# Altium footprint library Andy_Parts.PcbLib: 121 footprints (part 7 of 8)
Each footprint in its own frame and in the unit in brackets; x right, y up, seen from the top. Pads: shape width x height; smd on the part's side, far side on the other; paste and mask are expansions set on the pad; w line width, h text height; cw(c..) or ccw(c..) is an arc to the next point about the centre after c.
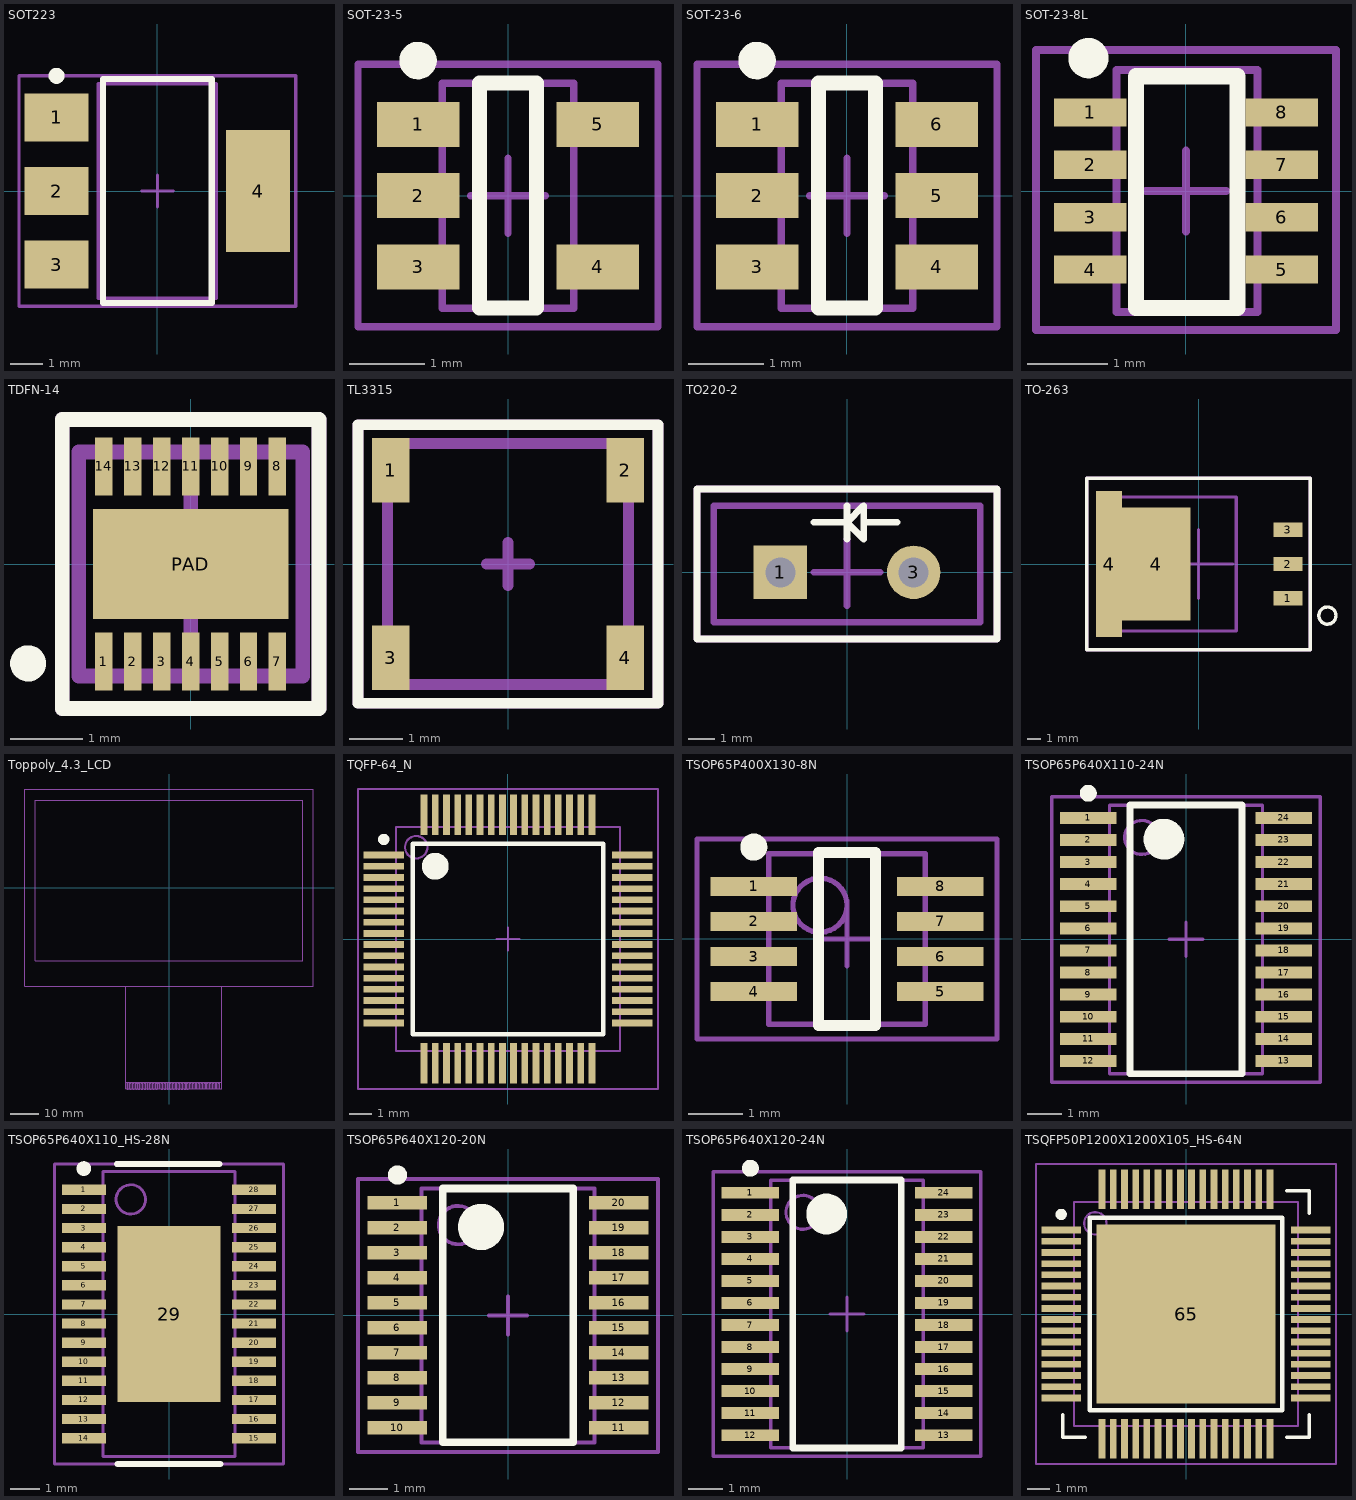
[diagram p6: the footprints below, top view; thin cyan lines are the x and y axes]

## SOT223 [mm] "SOT223, 4-Leads, Body 6.7x7.3mm (max), Pitch 2.30mm"
height 1.8
pads (4):
  rect 2x1.5 smd: 1(-3.15,2.3) 2(-3.15,0) 3(-3.15,-2.3)
  rect 2x3.8 smd: 4(3.15,0)
Top Overlay:
  circle w0.25: c-3.15,3.6 r0.125
  lines w0.2: -1.7,-3.5 -1.7,3.5 1.7,3.5 1.7,-3.5 -1.7,-3.5
Mechanical 1:
  text ".Designator" at 0,-2.159 h0.64
Mechanical 13:
  lines w0.1: -1.85,-3.35 -1.85,3.35 1.85,3.35 1.85,-3.35 -1.85,-3.35
Mechanical 15:
  lines w0.1: -0.5,0 0.5,0 ; 0,-0.5 0,0.5 ; -4.325,-3.6 -4.325,3.6 4.325,3.6 4.325,-3.6 -4.325,-3.6
3D body: height 1.8, standoff 0.02, extent -1.85,-3.35 1.85,3.35

## SOT-23-5 [mm] "SOT23, 5-Leads, Body 3.0x3.0mm (max), Pitch 0.95mm, IPC Medium Density"
height 1.8
pads (5):
  rect 1.1x0.6 smd: 1(-1.2,0.95) 2(-1.2,0) 3(-1.2,-0.95) 4(1.2,-0.95) 5(1.2,0.95)
Top Overlay:
  circle w0.25: c-1.2,1.8 r0.125
  lines w0.2: -0.381,-1.5 -0.381,1.5 0.381,1.5 0.381,-1.5 -0.381,-1.5
Mechanical 1:
  text ".Designator" at 0.225,-1.575 h0.64
Mechanical 13:
  lines w0.1: -0.875,-1.5 0.875,-1.5 0.875,1.5 -0.875,1.5 -0.875,-1.5
Mechanical 15:
  lines w0.1: -0.5,0 0.5,0 ; 0,-0.5 0,0.5 ; -2,-1.75 2,-1.75 2,1.75 -2,1.75 -2,-1.75
3D body: height 1.45, standoff 0.15, extent -0.875,-1.5 0.875,1.5

## SOT-23-6 [mm] "SOT23, 6-Leads, Body 3.0x3.0mm (max), Pitch 0.95mm, IPC Medium Density"
height 1.8
pads (6):
  rect 1.1x0.6 smd: 1(-1.2,0.95) 2(-1.2,0) 3(-1.2,-0.95) 4(1.2,-0.95) 5(1.2,0) 6(1.2,0.95)
Top Overlay:
  circle w0.25: c-1.2,1.8 r0.125
  lines w0.2: -0.381,-1.5 0.381,-1.5 0.381,1.5 -0.381,1.5 -0.381,-1.5
Mechanical 1:
  text ".Designator" at 0.225,-1.575 h0.64
Mechanical 13:
  lines w0.1: -0.875,-1.5 -0.875,1.5 0.875,1.5 0.875,-1.5 -0.875,-1.5
Mechanical 15:
  lines w0.1: -0.5,0 0.5,0 ; 0,-0.5 0,0.5 ; -2,-1.75 -2,1.75 2,1.75 2,-1.75 -2,-1.75
3D body: height 1.45, standoff 0.15, extent -0.875,-1.5 0.875,1.5

## SOT-23-8L [mm] "SOT23, 8-Leads, Body 1.75x3mm (max), Pitch 0.65mm, IPC Medium Density"
height 1.45
pads (8):
  rect 0.9x0.35 smd: 1(-1.187,0.975) 2(-1.187,0.325) 3(-1.187,-0.325) 4(-1.188,-0.975) 5(1.188,-0.975) 6(1.188,-0.325) 7(1.188,0.325) 8(1.188,0.975)
Top Overlay:
  circle w0.25: c-1.212,1.65 r0.125
  lines w0.2: -0.619,-1.453 0.637,-1.453 0.637,1.425 -0.619,1.425 -0.619,-1.453
Mechanical 1:
  text ".Designator" at 0.313,-1.4 h0.64
Mechanical 13:
  lines w0.1: -0.862,-1.5 -0.862,1.5 0.888,1.5 0.888,-1.5 -0.862,-1.5
Mechanical 15:
  lines w0.1: -0.5,0 0.5,0 ; 0,-0.5 0,0.5 ; -1.862,-1.725 -1.862,1.75 1.863,1.75 1.863,-1.725 -1.862,-1.725
3D body: height 1.45, standoff 0.1, extent -0.862,-1.353 0.888,1.5

## TDFN-14 [mm] "Maxim TDFN-14 leadless package"
height 0.8
pads (15):
  rect 0.241x0.8 smd: 1(-1.2,-1.35) 2(-0.8,-1.35) 3(-0.4,-1.35) 4(0,-1.35) 5(0.4,-1.35) 6(0.8,-1.35) 7(1.2,-1.35) 8(1.2,1.35) 9(0.8,1.35) 10(0.4,1.35) 11(0,1.35) 12(-0.4,1.35) 13(-0.8,1.35) 14(-1.2,1.35)
  rect 2.7x1.524 smd: PAD(0,0)
Top Overlay:
  circle w0.25: c-2.25,-1.375 r0.125
  lines w0.203: -1.775,-1.2 -1.775,2 -1.65,2 1.775,2 1.775,1.675 1.775,-2 1.65,-2 -1.775,-2 -1.775,-1.175
Mechanical 1:
  text ".Designator" at -1.4,-0.15 h0.64
Mechanical 13:
  lines w0.203: -1.55,-1.55 1.55,-1.55 1.55,1.55 -1.55,1.55 -1.55,-1.55
Mechanical 15:
  lines w0.203: -1.775,-1.2 -1.775,2 -1.65,2 1.775,2 1.775,1.675 1.775,-2 1.65,-2 -1.775,-2 -1.775,-1.175 ; -1,0 0,0 ; 0,-1 0,0 ; 0,1 0,0 ; 1,0 0,0
3D body: height 0.8, standoff 0.05, extent -1.55,-1.55 1.525,1.55

## TL3315 [mm] "E-Switch Series TL3315 Switch"
height 0.55
pads (4):
  rect 0.7x1.2 smd: 1(-2.187,1.75) 2(2.188,1.75) 3(-2.187,-1.75) 4(2.188,-1.75)
Top Overlay:
  lines w0.2: -2.8,-2.6 -2.8,2.6 -0.6,2.6 2.8,2.6 2.8,-2.1 2.8,-2.6 -2.8,-2.6
Mechanical 1:
  text ".Designator" at -0.9,-0.3 h1
Mechanical 13:
  lines w0.2: -2.25,-2.25 -2.25,2.25 2.25,2.25 2.25,-2.25 -2.25,-2.25
Mechanical 15:
  lines w0.2: -0.4,0 0.4,0 ; 0,-0.4 0,0.4 ; -2.8,-2.6 2.8,-2.6 2.8,-2.1 2.8,2.6 -0.6,2.6 -2.8,2.6 -2.8,-2.6
3D body: height 0.6, standoff 0.1, extent -1.488,-1.525 1.501,1.469
3D body: height 0.55, standoff 0, extent -2.25,-2.25 2.25,2.25

## TO220-2 [mil] "TO220-2 footprint for schottky diodes"
height 1100
pads (2):
  rect 80x80 hole 45: 1(-100,0)
  round 80 hole 45: 3(100,0)
Top Overlay:
  lines w10: -50,75 0,75 ; 0,50 0,100 ; 25,75 75,75 ; 0,75 25,50 25,100 0,75 ; -225,-100 -100,-100 225,-100 225,125 -225,125 -225,-100
Mechanical 1:
  text ".Designator" at -50,-25 h100
Mechanical 13:
  lines w10: -200,-75 -200,100 200,100 200,-75 -200,-75
Mechanical 15:
  lines w10: -50,0 50,0 ; 0,-50 0,50 ; -225,-100 -225,125 225,125 225,-100 -100,-100 -225,-100
3D body: height 1100, standoff 500, extent -200,-75 200,100
3D body: height 501, standoff 0, extent -110,-10 -90,10
3D body: height 501, standoff 0, extent 90,-10 110,10

## TO-263 [mm] "TO-263 package"
height 4.57
pads (5):
  rect 2.16x1.07 smd: 1(6.61,-2.54) 2(6.61,0) 3(6.61,2.54)
  rect 1.905x10.795 smd: 4(-6.61,0)
  rect 5.08x8.331 smd: 4(-3.118,0)
Top Overlay:
  circle w0.254: c9.525,-3.81 r0.635
  lines w0.254: -8.255,-6.35 -8.255,6.35 -7.62,6.35 8.255,6.35 8.255,-6.35 -8.255,-6.35
Mechanical 1:
  text ".Designator" at 0.22,-0.127 h0.64
Mechanical 13:
  lines w0.254: -7.112,-4.953 2.794,-4.953 2.794,4.953 -7.112,4.953 -7.112,-4.953
Mechanical 15:
  lines w0.254: -2.54,0 0,0 ; 0,-2.54 0,0 ; 0,2.54 0,0 ; 2.54,0 0,0 ; -8.255,-6.35 8.255,-6.35 8.255,6.35 -7.62,6.35 -8.255,6.35 -8.255,-6.35
3D body: height 4.57, standoff 0, extent -5.842,-4.953 2.794,4.953
3D body: height 1.27, standoff 0, extent -7.112,-4.953 -5.842,4.953

## Toppoly_4.3_LCD [mm] "4.3\" Toppoly LCD"
height 4.1
Mechanical 1:
  text ".Designator" at -8.5,-2.6 h3
Mechanical 13:
  lines w0.178: -50.5,-34.5 50.5,-34.5 50.5,34.5 -50.5,34.5 -50.5,-34.5 ; -46.8,-25.6 46.8,-25.6 46.8,30.6 -46.8,30.6 -46.8,-25.6 ; -15.2,-70.5 18.5,-70.5 18.5,-34.5 -15.2,-34.5 -15.2,-70.5
  lines w0.254: -15.2,-68.075 18.5,-68.075 ; -14.7,-70.505 -14.2,-70.505 -14.2,-68.505 -14.7,-68.505 -14.7,-70.505 ; -13.7,-70.505 -13.7,-68.505 -13.2,-68.505 -13.2,-70.505 -13.7,-70.505 ; -12.7,-70.505 -12.7,-68.505 -12.2,-68.505 -12.2,-70.505 -12.7,-70.505 ; -11.7,-70.505 -11.7,-68.505 -11.2,-68.505 -11.2,-70.505 -11.7,-70.505 ; -10.7,-70.505 -10.7,-68.505 -10.2,-68.505 -10.2,-70.505 -10.7,-70.505 ; -9.7,-70.505 -9.7,-68.505 -9.2,-68.505 -9.2,-70.505 -9.7,-70.505 ; -8.7,-70.505 -8.7,-68.505 -8.2,-68.505 -8.2,-70.505 -8.7,-70.505 ; -7.7,-70.505 -7.7,-68.505 -7.2,-68.505 -7.2,-70.505 -7.7,-70.505 ; -6.7,-70.505 -6.7,-68.505 -6.2,-68.505 -6.2,-70.505 -6.7,-70.505 ; -5.7,-70.505 -5.7,-68.505 -5.2,-68.505 -5.2,-70.505 -5.7,-70.505 ; -4.7,-70.505 -4.7,-68.505 -4.2,-68.505 -4.2,-70.505 -4.7,-70.505 ; -3.7,-70.475 -3.7,-68.475 -3.2,-68.475 -3.2,-70.475 -3.7,-70.475 ; -2.7,-70.505 -2.7,-68.505 -2.2,-68.505 -2.2,-70.505 -2.7,-70.505 ; -1.7,-70.505 -1.7,-68.505 -1.2,-68.505 -1.2,-70.505 -1.7,-70.505 ; -0.7,-70.505 -0.7,-68.505 -0.2,-68.505 -0.2,-70.505 -0.7,-70.505 ; 0.3,-70.505 0.3,-68.505 0.8,-68.505 0.8,-70.505 0.3,-70.505 ; 1.3,-70.505 1.3,-68.505 1.8,-68.505 1.8,-70.505 1.3,-70.505 ; 2.3,-70.505 2.3,-68.505 2.8,-68.505 2.8,-70.505 2.3,-70.505 ; 3.3,-70.505 3.3,-68.505 3.8,-68.505 3.8,-70.505 3.3,-70.505 ; 4.3,-70.505 4.3,-68.505 4.8,-68.505 4.8,-70.505 4.3,-70.505 ; 5.3,-70.505 5.3,-68.505 5.8,-68.505 5.8,-70.505 5.3,-70.505 ; 6.3,-70.505 6.3,-68.505 6.8,-68.505 6.8,-70.505 6.3,-70.505 ; 7.3,-70.5 7.8,-70.5 7.8,-68.5 7.3,-68.5 7.3,-70.5 ; 8.3,-70.5 8.8,-70.5 8.8,-68.5 8.3,-68.5 8.3,-70.5 ; 9.3,-70.5 9.8,-70.5 9.8,-68.5 9.3,-68.5 9.3,-70.5 ; 10.3,-70.5 10.8,-70.5 10.8,-68.5 10.3,-68.5 10.3,-70.5 ; 11.3,-70.5 11.8,-70.5 11.8,-68.5 11.3,-68.5 11.3,-70.5 ; 12.3,-70.5 12.8,-70.5 12.8,-68.5 12.3,-68.5 12.3,-70.5 ; 13.3,-70.5 13.8,-70.5 13.8,-68.5 13.3,-68.5 13.3,-70.5 ; 14.3,-70.5 14.8,-70.5 14.8,-68.5 14.3,-68.5 14.3,-70.5 ; 15.3,-70.5 15.8,-70.5 15.8,-68.5 15.3,-68.5 15.3,-70.5 ; 16.3,-70.5 16.8,-70.5 16.8,-68.5 16.3,-68.5 16.3,-70.5 ; 17.3,-70.5 17.8,-70.5 17.8,-68.5 17.3,-68.5 17.3,-70.5
3D body: height 4.1, standoff 0, extent -50.5,-34.5 50.5,34.5
3D body: height 4.11, standoff 4.1, extent -46.8,-25.6 46.8,30.6
3D body: height 2.6, standoff 2.4, extent 6.3,-70.505 6.8,-68.505
3D body: height 2.6, standoff 2.4, extent 5.3,-70.505 5.8,-68.505
3D body: height 2.6, standoff 2.4, extent 4.3,-70.505 4.8,-68.505
3D body: height 2.6, standoff 2.4, extent 3.3,-70.505 3.8,-68.505
3D body: height 2.6, standoff 2.4, extent 2.3,-70.505 2.8,-68.505
3D body: height 2.6, standoff 2.4, extent 1.3,-70.505 1.8,-68.505
3D body: height 2.6, standoff 2.4, extent 0.3,-70.505 0.8,-68.505
3D body: height 2.6, standoff 2.4, extent -0.7,-70.505 -0.2,-68.505
3D body: height 2.6, standoff 2.4, extent -1.7,-70.505 -1.2,-68.505
3D body: height 2.6, standoff 2.4, extent -2.7,-70.505 -2.2,-68.505
3D body: height 2.6, standoff 2.4, extent -3.7,-70.475 -3.2,-68.475
3D body: height 2.6, standoff 2.4, extent -4.7,-70.505 -4.2,-68.505
3D body: height 2.6, standoff 2.4, extent -5.7,-70.505 -5.2,-68.505
3D body: height 2.6, standoff 2.4, extent -6.7,-70.505 -6.2,-68.505
3D body: height 2.6, standoff 2.4, extent -7.7,-70.505 -7.2,-68.505
3D body: height 2.6, standoff 2.4, extent -8.7,-70.505 -8.2,-68.505
3D body: height 2.6, standoff 2.4, extent -9.7,-70.505 -9.2,-68.505
3D body: height 2.6, standoff 2.4, extent -10.7,-70.505 -10.2,-68.505
3D body: height 2.6, standoff 2.4, extent -11.7,-70.505 -11.2,-68.505
3D body: height 2.6, standoff 2.4, extent -12.7,-70.505 -12.2,-68.505
3D body: height 2.6, standoff 2.4, extent -13.7,-70.505 -13.2,-68.505
3D body: height 2.6, standoff 2.4, extent -14.7,-70.505 -14.2,-68.505
3D body: height 2.4, standoff 2, extent -15.2,-70.475 18.5,-68.075
3D body: height 2.6, standoff 2.2, extent -15.2,-68.075 18.5,-34.5
3D body: height 2.6, standoff 2.4, extent 7.3,-70.5 7.8,-68.5
3D body: height 2.6, standoff 2.4, extent 8.3,-70.5 8.8,-68.5
3D body: height 2.6, standoff 2.4, extent 9.3,-70.5 9.8,-68.5
3D body: height 2.6, standoff 2.4, extent 10.3,-70.5 10.8,-68.5
3D body: height 2.6, standoff 2.4, extent 11.3,-70.5 11.8,-68.5
3D body: height 2.6, standoff 2.4, extent 12.3,-70.5 12.8,-68.5
3D body: height 2.6, standoff 2.4, extent 13.3,-70.5 13.8,-68.5
3D body: height 2.6, standoff 2.4, extent 14.3,-70.5 14.8,-68.5
3D body: height 2.6, standoff 2.4, extent 15.3,-70.5 15.8,-68.5
3D body: height 2.6, standoff 2.4, extent 16.3,-70.5 16.8,-68.5
3D body: height 2.6, standoff 2.4, extent 17.3,-70.5 17.8,-68.5

## TQFP-64_N [mm] "64-Pin Thin Plastic Quad Flat Pack 0.5 mm Pitch, 1.0/0.1 mm Lead Form, IPC Medium Density"
height 1.2
pads (64):
  rect 1.8x0.3 smd: 1(-5.55,3.75) 2(-5.55,3.25) 3(-5.55,2.75) 4(-5.55,2.25) 5(-5.55,1.75) 6(-5.55,1.25) 7(-5.55,0.75) 8(-5.55,0.25) 9(-5.55,-0.25) 10(-5.55,-0.75) 11(-5.55,-1.25) 12(-5.55,-1.75) 13(-5.55,-2.25) 14(-5.55,-2.75) 15(-5.55,-3.25) 16(-5.55,-3.75) 33(5.55,-3.75) 34(5.55,-3.25) 35(5.55,-2.75) 36(5.55,-2.25) 37(5.55,-1.75) 38(5.55,-1.25) 39(5.55,-0.75) 40(5.55,-0.25) 41(5.55,0.25) 42(5.55,0.75) 43(5.55,1.25) 44(5.55,1.75) 45(5.55,2.25) 46(5.55,2.75) 47(5.55,3.25) 48(5.55,3.75)
  rect 0.3x1.8 smd: 17(-3.75,-5.55) 18(-3.25,-5.55) 19(-2.75,-5.55) 20(-2.25,-5.55) 21(-1.75,-5.55) 22(-1.25,-5.55) 23(-0.75,-5.55) 24(-0.25,-5.55) 25(0.25,-5.55) 26(0.75,-5.55) 27(1.25,-5.55) 28(1.75,-5.55) 29(2.25,-5.55) 30(2.75,-5.55) 31(3.25,-5.55) 32(3.75,-5.55) 49(3.75,5.55) 50(3.25,5.55) 51(2.75,5.55) 52(2.25,5.55) 53(1.75,5.55) 54(1.25,5.55) 55(0.75,5.55) 56(0.25,5.55) 57(-0.25,5.55) 58(-0.75,5.55) 59(-1.25,5.55) 60(-1.75,5.55) 61(-2.25,5.55) 62(-2.75,5.55) 63(-3.25,5.55) 64(-3.75,5.55)
Top Overlay:
  circle w0.25: c-5.55,4.45 r0.125
  circle w0.6: c-3.25,3.25 r0.3
  lines w0.2: -4.25,-4.25 -4.25,4.25 4.25,4.25 4.25,-4.25 -4.25,-4.25
Mechanical 1:
  text ".Designator" at -1.27,-0.635 h2.03
Mechanical 13:
  circle w0.1: c-4.1,4.1 r0.5
  lines w0.1: -5,-5 -5,5 5,5 5,-5 -5,-5
Mechanical 15:
  lines w0.1: -0.5,0 0.5,0 ; 0,-0.5 0,0.5 ; -6.7,-6.7 -6.7,6.7 6.7,6.7 6.7,-6.7 -6.7,-6.7
3D body: height 1.2, standoff 0, extent -5,-5 5,5

## TSOP65P400X130-8N [mm] "TSOP, 8-Leads, Body 3.2x2.9mm (max), Pitch 0.65mm, IPC Medium Density"
height 1.3
pads (8):
  rect 1.6x0.35 smd: 1(-1.725,0.975) 2(-1.725,0.325) 3(-1.725,-0.325) 4(-1.725,-0.975) 5(1.725,-0.975) 6(1.725,-0.325) 7(1.725,0.325) 8(1.725,0.975)
Top Overlay:
  circle w0.25: c-1.725,1.7 r0.125
  lines w0.2: -0.525,-1.6 -0.525,1.6 0.525,1.6 0.525,-1.6 -0.525,-1.6
Mechanical 1:
  text ".Designator" at -0.5,0 h1
Mechanical 13:
  circle w0.1: c-0.5,0.625 r0.5
  lines w0.1: -1.45,-1.575 -1.45,1.575 1.45,1.575 1.45,-1.575 -1.45,-1.575
Mechanical 15:
  lines w0.1: -0.5,0 0.5,0 ; 0,-0.5 0,0.5 ; -2.775,-1.85 -2.775,1.85 2.775,1.85 2.775,-1.85 -2.775,-1.85
3D body: height 1.3, standoff 0.05, extent -1.45,-1.575 1.45,1.575

## TSOP65P640X110-24N [mm] "TSOP, 24-Leads, Body 7.9x4.5mm (max), Pitch 0.65mm, IPC Medium Density"
height 1.1
pads (24):
  rect 1.65x0.35 smd: 1(-2.875,3.575) 2(-2.875,2.925) 3(-2.875,2.275) 4(-2.875,1.625) 5(-2.875,0.975) 6(-2.875,0.325) 7(-2.875,-0.325) 8(-2.875,-0.975) 9(-2.875,-1.625) 10(-2.875,-2.275) 11(-2.875,-2.925) 12(-2.875,-3.575) 13(2.875,-3.575) 14(2.875,-2.925) 15(2.875,-2.275) 16(2.875,-1.625) 17(2.875,-0.975) 18(2.875,-0.325) 19(2.875,0.325) 20(2.875,0.975) 21(2.875,1.625) 22(2.875,2.275) 23(2.875,2.925) 24(2.875,3.575)
Top Overlay:
  circle w0.6: c-0.65,2.95 r0.3
  circle w0.25: c-2.875,4.3 r0.125
  lines w0.2: -1.65,-3.95 1.65,-3.95 1.65,3.95 -1.65,3.95 -1.65,-3.95
Mechanical 1:
  text ".Designator" at -0.75,-0.25 h0.7
Mechanical 13:
  circle w0.1: c-1.3,3 r0.5
  lines w0.1: -2.25,-3.95 2.25,-3.95 2.25,3.95 -2.25,3.95 -2.25,-3.95
Mechanical 15:
  lines w0.1: -0.5,0 0.5,0 ; 0,-0.5 0,0.5 ; -3.95,-4.2 3.95,-4.2 3.95,4.2 -3.95,4.2 -3.95,-4.2
3D body: height 1.1, standoff 0.05, extent -2.25,-3.95 2.25,3.95

## TSOP65P640X110_HS-28N [mm] "TSOP, 28-Leads, Body 9.7x4.5mm (max), Pitch 0.65mm, IPC Medium Density"
height 1.1
pads (29):
  rect 1.5x0.35 smd: 1(-2.9,4.225) 2(-2.9,3.575) 3(-2.9,2.925) 4(-2.9,2.275) 5(-2.9,1.625) 6(-2.9,0.975) 7(-2.9,0.325) 8(-2.9,-0.325) 9(-2.9,-0.975) 10(-2.9,-1.625) 11(-2.9,-2.275) 12(-2.9,-2.925) 13(-2.9,-3.575) 14(-2.9,-4.225) 15(2.9,-4.225) 16(2.9,-3.575) 17(2.9,-2.925) 18(2.9,-2.275) 19(2.9,-1.625) 20(2.9,-0.975) 21(2.9,-0.325) 22(2.9,0.325) 23(2.9,0.975) 24(2.9,1.625) 25(2.9,2.275) 26(2.9,2.925) 27(2.9,3.575) 28(2.9,4.225)
  rect 3.5x6 smd: 29(0,0)
Top Overlay:
  circle w0.25: c-2.9,4.95 r0.125
  lines w0.2: -1.778,5.105 1.722,5.105 ; -1.747,-5.105 1.753,-5.105
Mechanical 13:
  circle w0.1: c-1.3,3.9 r0.5
  lines w0.1: -2.25,-4.85 -2.25,4.85 2.25,4.85 2.25,-4.85 -2.25,-4.85
Mechanical 15:
  lines w0.1: -0.5,0 0.5,0 ; 0,-0.5 0,0.5 ; -3.9,-5.1 -3.9,5.1 3.9,5.1 3.9,-5.1 -3.9,-5.1
3D body: height 1.1, standoff 0.1, extent -2.25,-4.85 2.25,4.85

## TSOP65P640X120-20N [mm] "TSOP, 20-Leads, Body 6.6x4.5mm (max), Pitch 0.65mm, IPC Medium Density"
height 1.2
pads (20):
  rect 1.55x0.35 smd: 1(-2.875,2.925) 2(-2.875,2.275) 3(-2.875,1.625) 4(-2.875,0.975) 5(-2.875,0.325) 6(-2.875,-0.325) 7(-2.875,-0.975) 8(-2.875,-1.625) 9(-2.875,-2.275) 10(-2.875,-2.925) 11(2.875,-2.925) 12(2.875,-2.275) 13(2.875,-1.625) 14(2.875,-0.975) 15(2.875,-0.325) 16(2.875,0.325) 17(2.875,0.975) 18(2.875,1.625) 19(2.875,2.275) 20(2.875,2.925)
Top Overlay:
  circle w0.25: c-2.875,3.65 r0.125
  circle w0.6: c-0.7,2.3 r0.3
  lines w0.2: -1.7,-3.3 -1.7,3.3 1.7,3.3 1.7,-3.3 -1.7,-3.3
Mechanical 1:
  text ".Designator" at -0.75,-0.25 h1.27
Mechanical 13:
  circle w0.1: c-1.3,2.35 r0.5
  lines w0.1: -2.25,-3.3 -2.25,3.3 2.25,3.3 2.25,-3.3 -2.25,-3.3
Mechanical 15:
  lines w0.1: -0.5,0 0.5,0 ; 0,-0.5 0,0.5 ; -3.9,-3.55 -3.9,3.55 3.9,3.55 3.9,-3.55 -3.9,-3.55
3D body: height 1.2, standoff 0.05, extent -2.25,-3.3 2.25,3.3

## TSOP65P640X120-24N [mm] "TSOP, 24-Leads, Body 7.9x4.5mm (max), Pitch 0.65mm, IPC Medium Density"
height 1.2
pads (24):
  rect 1.7x0.35 smd: 1(-2.85,3.575) 2(-2.85,2.925) 3(-2.85,2.275) 4(-2.85,1.625) 5(-2.85,0.975) 6(-2.85,0.325) 7(-2.85,-0.325) 8(-2.85,-0.975) 9(-2.85,-1.625) 10(-2.85,-2.275) 11(-2.85,-2.925) 12(-2.85,-3.575) 13(2.85,-3.575) 14(2.85,-2.925) 15(2.85,-2.275) 16(2.85,-1.625) 17(2.85,-0.975) 18(2.85,-0.325) 19(2.85,0.325) 20(2.85,0.975) 21(2.85,1.625) 22(2.85,2.275) 23(2.85,2.925) 24(2.85,3.575)
Top Overlay:
  circle w0.6: c-0.6,2.95 r0.3
  circle w0.25: c-2.85,4.3 r0.125
  lines w0.2: -1.6,-3.95 1.6,-3.95 1.6,3.95 -1.6,3.95 -1.6,-3.95
Mechanical 13:
  circle w0.1: c-1.3,3 r0.5
  lines w0.1: -2.25,-3.95 2.25,-3.95 2.25,3.95 -2.25,3.95 -2.25,-3.95
Mechanical 15:
  lines w0.1: -0.5,0 0.5,0 ; 0,-0.5 0,0.5 ; -3.95,-4.2 3.95,-4.2 3.95,4.2 -3.95,4.2 -3.95,-4.2
3D body: height 1.2, standoff 0.05, extent -2.25,-3.95 2.25,3.95

## TSQFP50P1200X1200X105_HS-64N [mm] "TSQFP, 64-Leads, Body 12.2x12.2mm (max), Pitch 0.50mm, IPC Medium Density"
height 1.05
pads (65):
  rect 1.75x0.3 smd: 1(-5.575,3.75) 2(-5.575,3.25) 3(-5.575,2.75) 4(-5.575,2.25) 5(-5.575,1.75) 6(-5.575,1.25) 7(-5.575,0.75) 8(-5.575,0.25) 9(-5.575,-0.25) 10(-5.575,-0.75) 11(-5.575,-1.25) 12(-5.575,-1.75) 13(-5.575,-2.25) 14(-5.575,-2.75) 15(-5.575,-3.25) 16(-5.575,-3.75) 33(5.575,-3.75) 34(5.575,-3.25) 35(5.575,-2.75) 36(5.575,-2.25) 37(5.575,-1.75) 38(5.575,-1.25) 39(5.575,-0.75) 40(5.575,-0.25) 41(5.575,0.25) 42(5.575,0.75) 43(5.575,1.25) 44(5.575,1.75) 45(5.575,2.25) 46(5.575,2.75) 47(5.575,3.25) 48(5.575,3.75)
  rect 0.3x1.75 smd: 17(-3.75,-5.575) 18(-3.25,-5.575) 19(-2.75,-5.575) 20(-2.25,-5.575) 21(-1.75,-5.575) 22(-1.25,-5.575) 23(-0.75,-5.575) 24(-0.25,-5.575) 25(0.25,-5.575) 26(0.75,-5.575) 27(1.25,-5.575) 28(1.75,-5.575) 29(2.25,-5.575) 30(2.75,-5.575) 31(3.25,-5.575) 32(3.75,-5.575) 49(3.75,5.575) 50(3.25,5.575) 51(2.75,5.575) 52(2.25,5.575) 53(1.75,5.575) 54(1.25,5.575) 55(0.75,5.575) 56(0.25,5.575) 57(-0.25,5.575) 58(-0.75,5.575) 59(-1.25,5.575) 60(-1.75,5.575) 61(-2.25,5.575) 62(-2.75,5.575) 63(-3.25,5.575) 64(-3.75,5.575)
  rect 8x8 smd: 65(0,0)
Top Overlay:
  circle w0.25: c-5.575,4.45 r0.125
  lines w0.152: -5.5,-4.5 -5.5,-5.5 -4.5,-5.5 ; 4.5,-5.5 5.5,-5.5 5.5,-4.5 ; 4.5,5.5 5.5,5.5 5.5,4.5
  lines w0.2: -4.3,-4.3 4.3,-4.3 4.3,4.3 -4.3,4.3 -4.3,-4.3
Mechanical 13:
  circle w0.1: c-4.05,4.05 r0.5
  lines w0.1: -5,-5 5,-5 5,5 -5,5 -5,-5
Mechanical 15:
  lines w0.1: -0.5,0 0.5,0 ; 0,-0.5 0,0.5 ; -6.7,-6.7 6.7,-6.7 6.7,6.7 -6.7,6.7 -6.7,-6.7
3D body: height 1.05, standoff 0.05, extent -5,-5 5,5